# Altium footprint library WR-TBL_Wire Protector_3.50mm.PcbLib: 2 footprints
Each footprint in its own frame and in the unit in brackets; x right, y up, seen from the top. Pads: shape width x height; smd on the part's side, far side on the other; paste and mask are expansions set on the pad; w line width, h text height; cw(c..) or ccw(c..) is an arc to the next point about the centre after c.
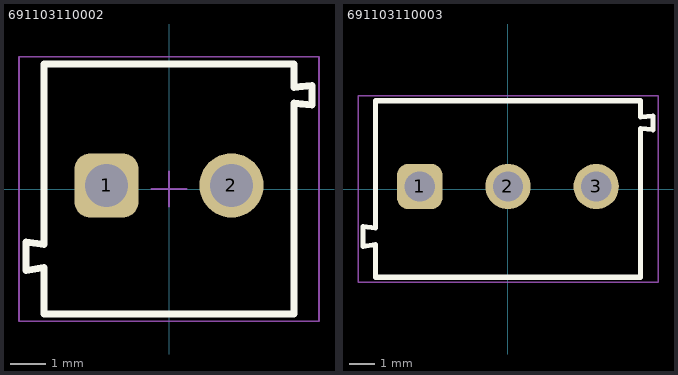
[diagram p0: the footprints below, top view; thin cyan lines are the x and y axes]

## 691103110002 [mm] "3,50mm - modular - blue - Horizontal wire entry - Pressure clamp - 8,4mm height - 02p"
height 8.4
pads (2):
  rrect50% 1.8x1.8 hole 1.2: 1(-1.75,0.1)
  round 1.8 hole 1.2: 2(1.75,0.1)
Top Overlay:
  lines w0.2: -3.5,-1.55 -3.5,3.5 3.5,3.5 3.5,2.85 4,2.899 4,2.35 ; -3.499,-1.55 -4,-1.48 -4,-2.278 -3.5,-2.2 -3.5,-3.5 3.5,-3.5 3.5,2.4 4,2.351
Top Designator:
  text ".Designator" at -7.498,-0.5 h1.5
Top Component Outline:
  lines w0.1: -3.5,-1.55 -3.5,3.5 3.5,3.5 3.5,2.85 4,2.899 4,2.35 ; -3.499,-1.55 -4,-1.48 -4,-2.278 -3.5,-2.2 -3.5,-3.5 3.5,-3.5 3.5,2.4 4,2.351
Top 3D Body:
  lines w0.1: -3.5,-1.55 -3.5,3.5 3.5,3.5 3.5,2.85 4,2.899 4,2.35 ; -3.499,-1.55 -4,-1.48 -4,-2.278 -3.5,-2.2 -3.5,-3.5 3.5,-3.5 3.5,2.4 4,2.351
Top Courtyard:
  lines w0.05: -4.2,-3.7 -4.2,3.7 4.2,3.7 4.2,-3.7 -4.2,-3.7
Top Component Center:
  lines w0.05: -0.5,0 0.5,0 ; 0,-0.5 0,0.5
3D body "691103110002.stp": height 8.45, standoff -3.75, extent -4,-3.5 4,3.5

## 691103110003 [mm] "3,50mm - modular - blue - Horizontal wire entry - Pressure clamp - 8,4mm height - 03p"
height 8.4
pads (3):
  rrect50% 1.8x1.8 hole 1.2: 1(-3.5,0.1)
  round 1.8 hole 1.2: 2(0,0.1) 3(3.5,0.1)
Top Overlay:
  lines w0.2: -5.25,-1.55 -5.25,3.5 5.25,3.5 5.25,2.85 5.75,2.899 5.75,2.35 ; -5.249,-1.55 -5.75,-1.48 -5.75,-2.278 -5.25,-2.2 -5.25,-3.5 5.25,-3.5 5.25,2.4 5.75,2.351
Top Designator:
  text ".Designator" at -7.498,-0.5 h1.5
Top Component Outline:
  lines w0.1: -5.25,-1.55 -5.25,3.5 5.25,3.5 5.25,2.85 5.75,2.899 5.75,2.35 ; -5.249,-1.55 -5.75,-1.48 -5.75,-2.278 -5.25,-2.2 -5.25,-3.5 5.25,-3.5 5.25,2.4 5.75,2.351
Top 3D Body:
  lines w0.1: -5.25,-1.55 -5.25,3.5 5.25,3.5 5.25,2.85 5.75,2.899 5.75,2.35 ; -5.249,-1.55 -5.75,-1.48 -5.75,-2.278 -5.25,-2.2 -5.25,-3.5 5.25,-3.5 5.25,2.4 5.75,2.351
Top Courtyard:
  lines w0.05: -5.95,-3.7 -5.95,3.7 5.95,3.7 5.95,-3.7 -5.95,-3.7
Top Component Center:
  lines w0.05: -0.5,0 0.5,0 ; 0,-0.5 0,0.5
3D body "691103110003.stp": height 8.45, standoff -3.75, extent -5.75,-3.5 5.75,3.5